# Altium schematic symbol library POT_100K.Schlib: 1 symbol
Pins are listed as number, name and electrical type; pins without a type are passive.

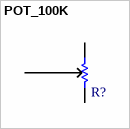
[diagram p0: symbol POT_100K]

## POT_100K
designator R?
Potentiometer
signal-integrity model Res
pins: 1, 2 Wiper, 3
2 alternate drawings of the same symbol